# Altium footprint library WK73R2ATTD1212F.PcbLib: 1 footprints
Each footprint in its own frame and in the unit in brackets; x right, y up, seen from the top. Pads: shape width x height; smd on the part's side, far side on the other; paste and mask are expansions set on the pad; w line width, h text height; cw(c..) or ccw(c..) is an arc to the next point about the centre after c.
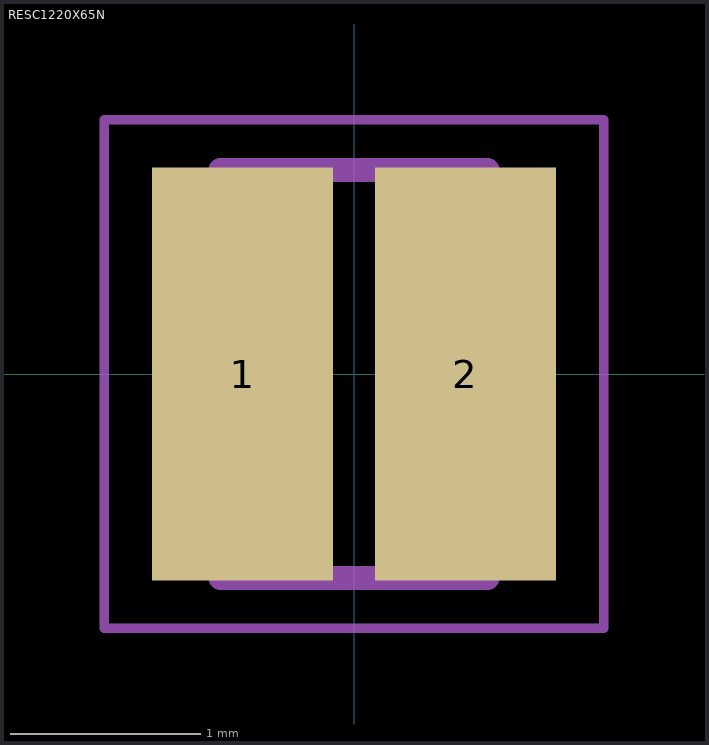
[diagram p0: the footprint, top view; thin cyan lines are the x and y axes]

## RESC1220X65N [mm]
pads (2):
  rect 0.95x2.17 smd: 1(-0.585,0) 2(0.585,0)
Mechanical 13:
  lines w0.127: -0.7,-1.07 -0.7,1.07 0.7,1.07 0.7,-1.07 -0.7,-1.07
Mechanical 15:
  lines w0.05: -1.31,-1.335 -1.31,1.335 1.31,1.335 1.31,-1.335 -1.31,-1.335
3D body "CAP_WK73R2ATTD200J_KOA.step": height 0.66, standoff 0, extent -0.698,-1.08 0.698,1.08